# Altium schematic symbol library wes_iot.SchLib: 4 symbols
Pins are listed as number, name and electrical type; pins without a type are passive.

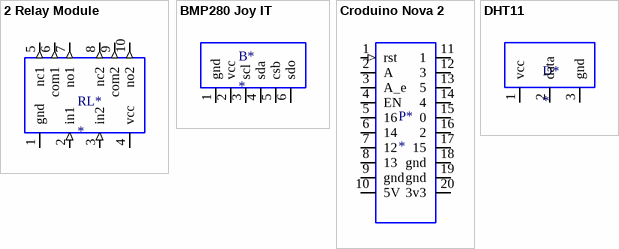
[diagram p0: symbols 2 Relay Module to DHT11]

## 2 Relay Module
designator RL*
pins: 1 gnd (power), 2 in1 (in), 3 in2 (in), 4 vcc (power), 5 nc1 (out), 6 com1 (out), 7 no1 (out), 8 nc2 (out), 9 com2 (out), 10 no2 (out)

## BMP280 Joy IT
designator B*
pins: 1 gnd (power), 2 vcc (power), 3 scl (io), 4 sda (io), 5 csb (io), 6 sdo (io)

## Croduino Nova 2
designator P*
pins: 1 rst (in), 2 A (io), 3 A_e (io), 4 EN (io), 5 16 (io), 6 14 (io), 7 12 (io), 8 13 (io), 9 gnd (power), 10 5V (power), 11 1 (io), 12 3 (io), 13 5 (io), 14 4 (io), 15 0 (io), 16 2 (io), 17 15 (io), 18 gnd (power), 19 gnd (power), 20 3v3 (power)

## DHT11
designator D*
pins: 1 vcc (power), 2 data (io), 3 gnd (power)